# Altium schematic symbol library Schematic Diagrams.SchLib: 401 symbols (part 4 of 11)
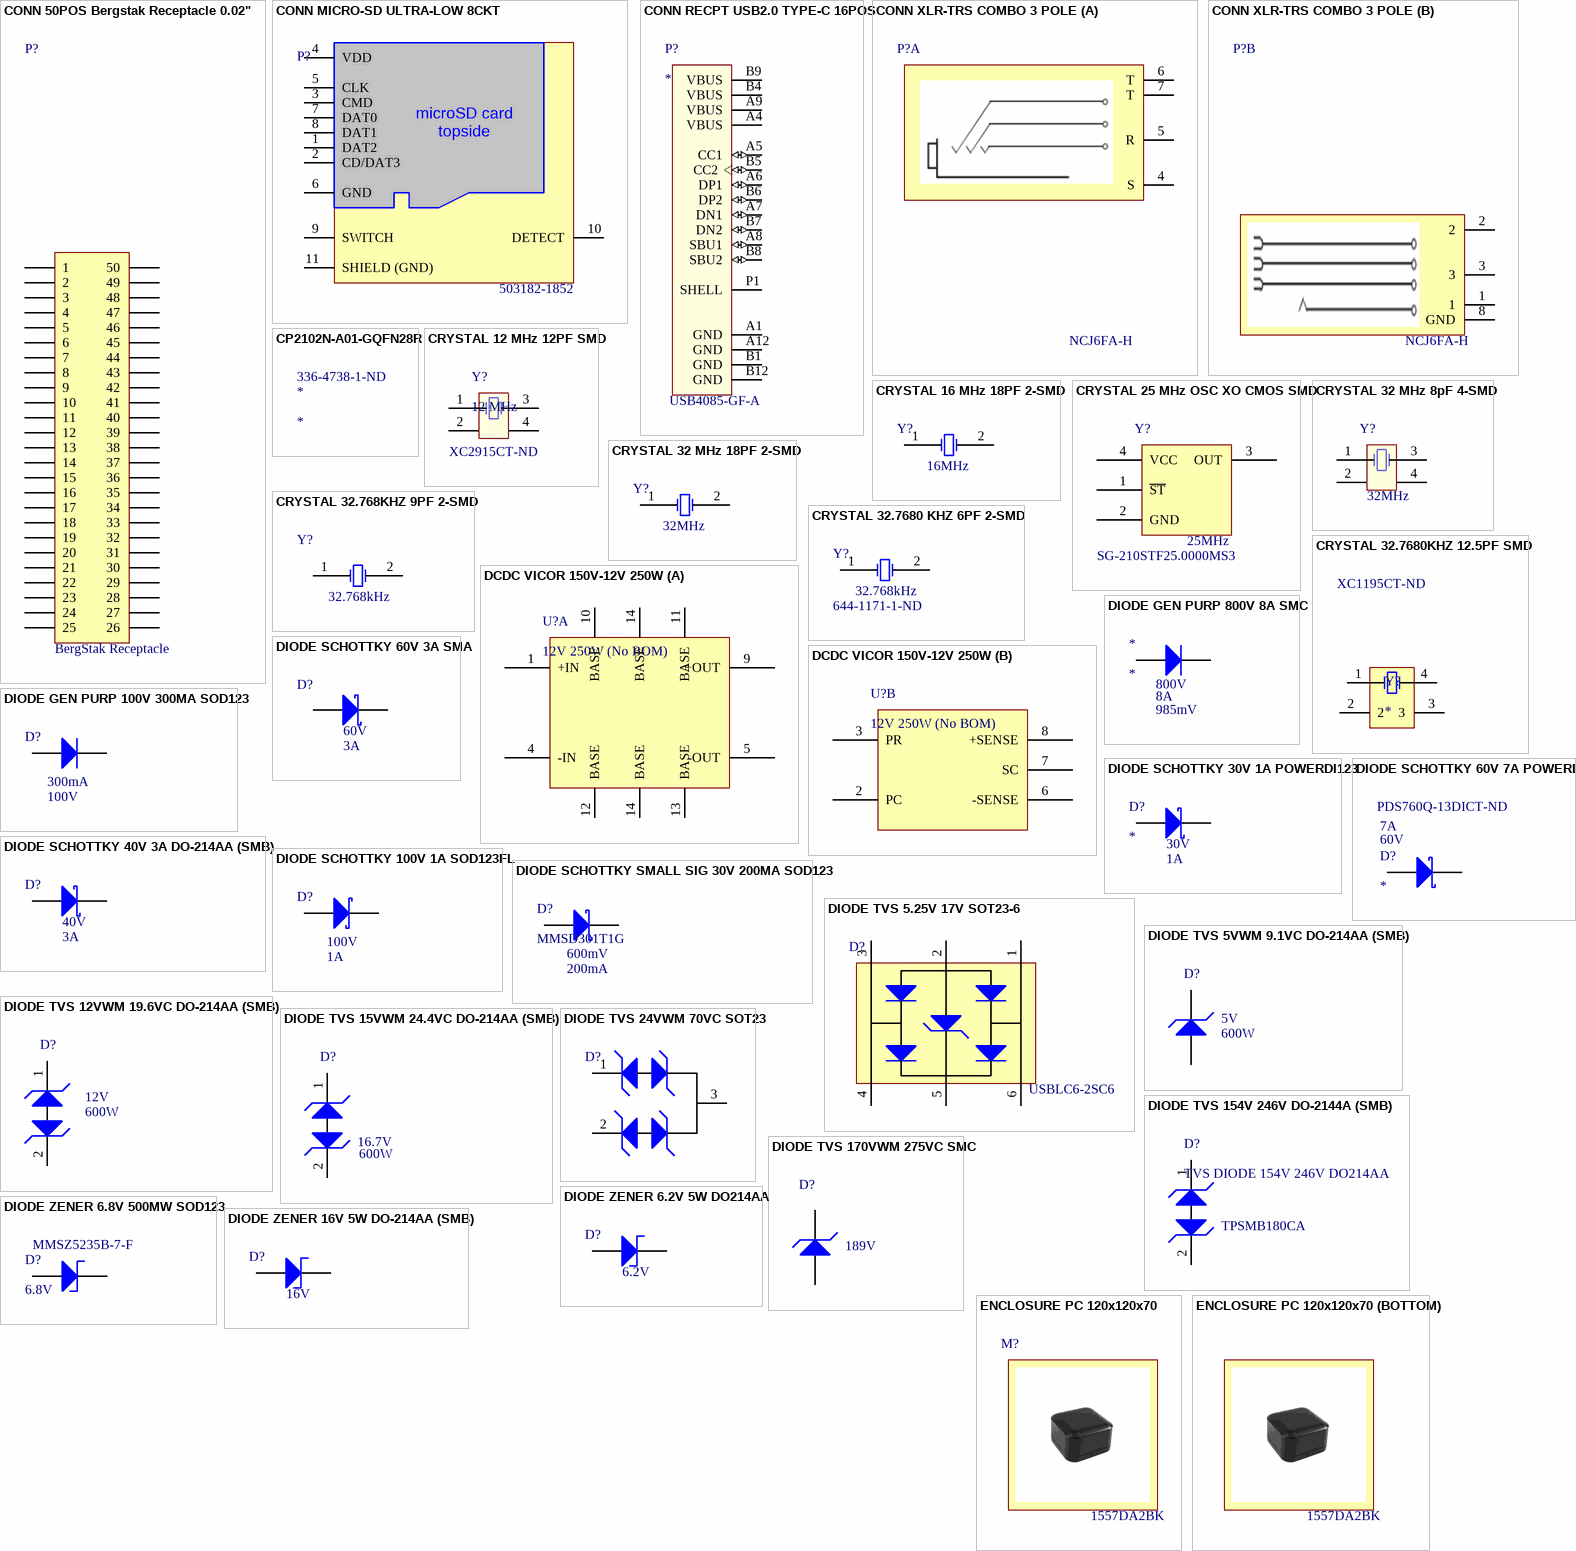
[diagram p17: symbols CONN 50POS Bergstak Receptacle 0.02" to ENCLOSURE PC 120x120x70 (BOTTOM)]

## CONN XLR-TRS COMBO 3 POLE
designator P?  Manufacturer Part Number: NCJ6FA-H  (hidden comment: *)
XLR Connectors A SERIES COMBO;3POLE FEM;PCB HOR; Manufacturer_Name: Neutrik; Body Material: Metal; Gender: Female; Current Rating: 3A; Voltage Rating: 50V; Number of Positions: 3; Number of Ports: 1; Number of Contacts: 6; Connector Type: Socket; Datasheet Link: http://www.neutrik.com/zoolu-website/media/download/13540/Product+Guide+-+Section+XLR; Manufacturer_Part_Number: NCJ6FA-H; Mouser Part Number: 568-NCJ6FA-H; Mouser Price/Stock: https://www.mouser.com/Search/Refine.aspx?Keyword=568-NCJ6FA-H; Supplier 1: Mouser; Supplier Part Number 1: 568-NCJ6FA-H; Manufacturer: Neutrik; Stock 1: 3848; Pricing 1: 1 = 2.06000, 10 = 1.96000, 50 = 1.86000, 100 = 1.80000, 1000 = 1.77000, 10000 = 1.77000 (USD); RoHS: Yes; Case/Package: Metal; Number of Pins: 3; Weight: 0.388014oz; Contact Material: Bronze; Contact Plating: Gold; Number of Terminals: 6; Housing Material: Polyamide; Color: Black; Min Operating Temperature: -30°C; Max Operating Temperature: 80°C; Package Quantity: 10; Termination: Solder; Orientation: Horizontal; Length: 25mm; Depth: 30.2mm; REACH SVHC: No SVHC; Flammability Rating: UL94 HB; ComponentLink1URL: https://datasheet.ciiva.com/30126/neutrik-ncj6fa-h-1-30126129.pdf?src-supplier=Onlinecomponents.com; ComponentLink1Description: https://datasheet.ciiva.com/30126/neutrik-ncj6fa-h-1-30126129.pdf?src-supplier=Onlinecomponents.com; ComponentLink2URL: https://datasheet.ciiva.com/8008/76755-8008003.pdf?src-supplier=Element14; ComponentLink2Description: https://datasheet.ciiva.com/8008/76755-8008003.pdf?src-supplier=Element14; ComponentLink3URL: https://datasheet.ciiva.com/24394/neutrik-ncj6fa-h-1-24394955.pdf?src-supplier=Onlinecomponents.com; ComponentLink3Description: https://datasheet.ciiva.com/24394/neutrik-ncj6fa-h-1-24394955.pdf?src-supplier=Onlinecomponents.com
footprint CONN XLR-TRS COMBO 3 POLE
part A pins: 4 S, 5 R, 6 T, 7 T
part B pins: 1, 2, 3, 8 GND

## CP2102N-A01-GQFN28R
designator *  Supplier Part Number 1: 336-4738-1-ND
IC BRIDGE USB TO UART 28QFN; Manufacturer: Silicon Labs; Manufacturer Part Number: CP2102N-A01-GQFN28R; Supplier 1: Digi-Key; RoHS: No; Stock 1: 2155; Pricing 1: 1=1.40000, 25=1.35160, 100=1.29950 (USD); ComponentLink1URL: https://www.silabs.com/documents/public/data-sheets/cp2102n-datasheet.pdf?src-supplier=Digi-Key; ComponentLink1Description: https://www.silabs.com/documents/public/data-sheets/cp2102n-datasheet.pdf?src-supplier=Digi-Key

## CRYSTAL 12 MHz 12PF SMD
designator Y?, comment 12 MHz  Supplier Part Number 1: XC2915CT-ND
12MHz ±25ppm Crystal 12pF 100 Ohms 4-SMD, No Lead; Manufacturer: ECS International; Manufacturer Part Number: ECS-120-12-33-AEN-TR; Supplier 1: Digi-Key; RoHS: No; Stock 1: 2000; Pricing 1: 1=0.56000, 10=0.46800, 50=0.42080, 100=0.37400, 500=0.35530 (USD)
footprint CRYSTAL ECX-32
pins: 1 OSC1, 2, 3 OSC2, 4 3

## CRYSTAL 16 MHz 18PF 2-SMD
designator Y?  Frequency: 16MHz  (hidden comment: *)
16MHz ±20ppm Crystal 18pF 40 Ohms 2-SMD, No Lead; Manufacturer: Abracon LLC; Manufacturer Part Number: ABM3-16.000MHZ-D2Y-T; Frequency Stability: ±30ppm; Operating Mode: Fundamental; Supplier 1: Digi-Key; RoHS: RoHS Compliant; Category: Crystals, Oscillators, Resonators; Stock 1: 27142; Pricing 1: 1=1.02, 10=0.858, 50=0.7712, 100=0.6855, 500=0.6512 (CAD); Packaging: Cut Tape (CT); Part Status: Active; Type: MHz Crystal; Frequency Tolerance: ±20ppm; Load Capacitance: 18pF; Operating Temperature: -40°C ~ 85°C; Ratings: -; Mounting Type: Surface Mount; Package / Case: 2-SMD, No Lead; Size / Dimension: 0.197" L x 0.126" W (5.00mm x 3.20mm); Height - Seated (Max): 0.051" (1.30mm); ComponentLink1URL: https://abracon.com/Resonators/abm3.pdf; ComponentLink1Description: https://abracon.com/Resonators/abm3.pdf; Supplier Part Number 1: 535-10638-1-ND
footprint ABM3 CRYSTAL
pins: 1, 2

## CRYSTAL 25 MHz OSC XO CMOS SMD
designator Y?  Manufacturer Part Number: SG-210STF25.0000MS3  Frequency: 25MHz  (hidden comment: *)
XTAL OSC XO 25.0000MHZ CMOS SMD; Manufacturer: Epson; Max Supply Current: 2.2mA; Frequency Stability: 25ppm; Load Capacitance: 15pF; Min Supply Voltage: 1.6V; Max Supply Voltage: 3.6V; Max Duty Cycle: 55%; Supplier 1: Digi-Key; RoHS: Yes; Category: Oscillators; Stock 1: 1693; Pricing 1: 1=1.21000, 10=1.15900, 50=1.13200, 100=0.97020 (USD); Mount: Surface Mount; Case/Package: SMD/SMT; Min Operating Temperature: -20°C; Max Operating Temperature: 70°C; Package Quantity: 250; Packaging: Tape and Reel; Termination: SMD/SMT; Current Rating: 2.2mA; Length: 0.098inch; Height: 0.035inch; Width: 0.079inch; Lead Free: Lead Free; ComponentLink1URL: https://datasheet.ciiva.com/29629/029-sg-210stf-e147-29629845.pdf?src-supplier=Digi-Key; ComponentLink1Description: https://datasheet.ciiva.com/29629/029-sg-210stf-e147-29629845.pdf?src-supplier=Digi-Key; ComponentLink2URL: https://datasheet.ciiva.com/29629/029-sg-210stf-e147-29629799.pdf?src-supplier=Digi-Key; ComponentLink2Description: https://datasheet.ciiva.com/29629/029-sg-210stf-e147-29629799.pdf?src-supplier=Digi-Key; ComponentLink3URL: https://datasheet.ciiva.com/29629/029-sg-210stf-e147-29629798.pdf?src-supplier=Digi-Key; ComponentLink3Description: https://datasheet.ciiva.com/29629/029-sg-210stf-e147-29629798.pdf?src-supplier=Digi-Key; Supplier Part Number 1: SER3804CT-ND
footprint CRYSTAL 25 MHz OSC XO CMOS SMD
pins: 1 ~{ST}, 2 GND, 3 OUT, 4 VCC

## CRYSTAL 32 MHz 8pF 4-SMD
designator Y?  Frequency: 32MHz
32MHz ±15ppm Crystal 8pF 50 Ohm -40°C ~ 85°C AEC-Q200 Surface Mount 4-SMD, No Lead; Manufacturer 1: AVX Corp/Kyocera Corp; Manufacturer Part Number 1: CX2520DB32000D0GPSC1; Frequency Stability: ±50ppm; ESR (Equivalent Series Resistance): 50 Ohm; Operating Mode: Fundamental; Supplier 1: Digi-Key; Supplier Part Number 1: 1253-1730-1-ND; Packaging: Cut Tape (CT); Part Status: Active; Type: MHz Crystal; Frequency Tolerance: ±15ppm; Operating Temperature: -40°C ~ 85°C; Ratings: AEC-Q200; Mounting Type: Surface Mount; Package / Case: 4-SMD, No Lead; Size / Dimension: 0.098" L x 0.079" W (2.50mm x 2.00mm); Height - Seated (Max): 0.022" (0.55mm); ComponentLink1URL: http://media.digikey.com/pdf/Data%20Sheets/AVX%20PDFs/CX2520DB_USY1M-H1-16428-00_Spec.pdf; ComponentLink1Description: http://media.digikey.com/pdf/Data%20Sheets/AVX%20PDFs/CX2520DB_USY1M-H1-16428-00_Spec.pdf; Load Capacitance: 8pF
footprint CX2520DB CRYSTAL
pins: 1 OSC1, 2, 3 OSC2, 4 3

## CRYSTAL 32 MHz 18PF 2-SMD
designator Y?  Frequency: 32MHz  (hidden comment: *)
32MHz ±20ppm Crystal 18pF 50 Ohms 2-SMD, No Lead /; Manufacturer: Abracon; Manufacturer Part Number: ABM7-32.000MHZ-D2Y-T; ESR (Equivalent Series Resistance): 50R; Frequency Stability: 30ppm; ComponentLink1URL: https://abracon.com/Resonators/abm3.pdf; ComponentLink1Description: https://abracon.com/Resonators/abm3.pdf; Supplier 1: Digi-Key; Supplier Part Number 1: 535-9850-1-ND; RoHS: Yes; Stock 1: 3351; Pricing 1: 1 = 1.00000, 10 = 0.88600, 50 = 0.82780, 100 = 0.73150, 500 = 0.69300 (USD); Mount: Surface Mount; Case/Package: CSMD; Number of Pins: 2; Min Operating Temperature: -40°C; Max Operating Temperature: 85°C; Load Capacitance: 18pF; Package Quantity: 1000; Tolerance: 20ppm; Packaging: Tape and Reel; Frequency Tolerance: 20ppm; Termination: SMD/SMT; Composition: Ceramic; Series Resistance: 50R; Length: 6mm; Height: 0.055inch; Width: 3.3mm; Depth: 3.5mm; Radiation Hardening: No; REACH SVHC: Unknown; Lead Free: Lead Free; ComponentLink2URL: http://www.farnell.com/datasheets/947971.pdf?src-supplier=Element14; ComponentLink2Description: http://www.farnell.com/datasheets/947971.pdf?src-supplier=Element14; ComponentLink3URL: http://www.abracon.com/Resonators/abm7.pdf?src-supplier=Future+Electronics; ComponentLink3Description: http://www.abracon.com/Resonators/abm7.pdf?src-supplier=Future+Electronics; ComponentLink4URL: http://www.abracon.com/Resonators/abm7.pdf?src-supplier=Digi-Key; ComponentLink4Description: http://www.abracon.com/Resonators/abm7.pdf?src-supplier=Digi-Key; ComponentLink5URL: https://abracon.com/Resonators/abm7.pdf?src-supplier=Digi-Key; ComponentLink5Description: https://abracon.com/Resonators/abm7.pdf?src-supplier=Digi-Key; ComponentLink6URL: http://www.abracon.com/Resonators/abm7.pdf?src-supplier=Avnet; ComponentLink6Description: http://www.abracon.com/Resonators/abm7.pdf?src-supplier=Avnet
footprint CRYSTAL ABM7 (32MHz ±20ppm Crystal 18pF 50 Ohms 2-SMD, No Lead)
pins: 1, 2

## CRYSTAL 32.768KHZ 9PF 2-SMD
designator Y?  Frequency: 32.768kHz
32.768kHz ±20ppm Crystal 6pF 50 kOhm -40°C ~ 85°C Surface Mount 4-SOJ, 5.50mm pitch; Manufacturer 1: Abracon LLC; Manufacturer Part Number 1: ABS07AIG-32.768KHZ-9-1-T; Frequency Tolerance: ±10ppm; Load Capacitance: 9pF; ESR (Equivalent Series Resistance): 70 kOhm; Operating Mode: Fundamental; Supplier 1: Digi-Key; Supplier Part Number 1: 535-13353-1-ND; Packaging: Cut Tape (CT); Part Status: Active; Type: kHz Crystal (Tuning Fork); Frequency Stability: -; Operating Temperature: -40°C ~ 125°C; Ratings: AEC-Q200; Mounting Type: Surface Mount; Package / Case: 2-SMD, No Lead; Size / Dimension: 0.126" L x 0.059" W (3.20mm x 1.50mm); Height - Seated (Max): 0.035" (0.90mm); ComponentLink1URL: http://www.abracon.com/AIGcrystals/ABS07AIG.pdf; ComponentLink1Description: http://www.abracon.com/AIGcrystals/ABS07AIG.pdf
footprint ABS07AIG CRYSTAL
pins: 1, 2

## CRYSTAL 32.7680 KHZ 6PF 2-SMD
designator Y?  Supplier Part Number 1: 644-1171-1-ND  Frequency: 32.768kHz  (hidden comment: *)
Crystal 32.7680KHZ 6PF SMD; Manufacturer: NDK; Manufacturer Part Number: NX3215SA-32.768K-STD-MUA-14; Frequency Tolerance: 20ppm; ESR (Equivalent Series Resistance): 70kR; Supplier 1: Digi-Key; RoHS: Yes; Category: Crystals; Stock 1: 61958; Pricing 1: 1=0.68000, 10=0.60200, 50=0.56280, 100=0.49740, 500=0.47124, 1000=0.39270 (USD); Mount: Surface Mount; Case/Package: SMD/SMT; Number of Pins: 2; Min Operating Temperature: -40°C; Max Operating Temperature: 85°C; Packaging: Tape and Reel; Package Quantity: 3000; Length: 0.126inch; Height: 0.035inch; Width: 0.059inch; ComponentLink1URL: https://datasheet.ciiva.com/6733/c-nx3215sa-std-mua-9-e-6733110.pdf?src-supplier=Digi-Key; ComponentLink1Description: https://datasheet.ciiva.com/6733/c-nx3215sa-std-mua-9-e-6733110.pdf?src-supplier=Digi-Key; ComponentLink2URL: https://datasheet.ciiva.com/6733/c-nx3215sa-std-mua-9-e-6733111.pdf?src-supplier=Digi-Key; ComponentLink2Description: https://datasheet.ciiva.com/6733/c-nx3215sa-std-mua-9-e-6733111.pdf?src-supplier=Digi-Key; ComponentLink3URL: https://datasheet.ciiva.com/6733/c-nx3215sa-std-mua-9-e-6733112.pdf?src-supplier=Digi-Key; ComponentLink3Description: https://datasheet.ciiva.com/6733/c-nx3215sa-std-mua-9-e-6733112.pdf?src-supplier=Digi-Key; Load Capacitance: 6pF
footprint CRYSTAL 32.7680 KHZ 6PF 2-SMD
pins: 1, 2

## CRYSTAL 32.7680KHZ 12.5PF SMD
designator Y?  Supplier Part Number 1: XC1195CT-ND
32.768kHz ±20ppm Crystal 12.5pF 50 kOhms 4-SOJ, 5.50mm pitch; Manufacturer: ECS International; Manufacturer Part Number: ECS-.327-12.5-17X-TR; ESR (Equivalent Series Resistance): 50kR; Supplier 1: Digi-Key; Stock 1: 67622; Pricing 1: 1=0.56, 10=0.468, 50=0.4208, 100=0.374, 500=0.3553, 1000=0.2992 (USD); Mount: Surface Mount; Min Operating Temperature: -40°C; Max Operating Temperature: 85°C; Package Quantity: 1; Frequency: 32.768kHz; Frequency Tolerance: 20ppm; Load Capacitance: 12.5pF; Packaging: Tape and Reel; Tolerance: 20ppm; Termination: SMD/SMT; Length: 0.315inch; Height: 0.098inch; Width: 0.15inch; Lead Free: Lead Free; ComponentLink1URL: https://datasheet.ciiva.com/852/ecx-306x-852775.pdf; ComponentLink1Description: https://datasheet.ciiva.com/852/ecx-306x-852775.pdf; ComponentLink2URL: https://datasheet.ciiva.com/852/ecx-306x-852776.pdf; ComponentLink2Description: https://datasheet.ciiva.com/852/ecx-306x-852776.pdf; ComponentLink3URL: https://datasheet.ciiva.com/852/ecx-306x-852777.pdf; ComponentLink3Description: https://datasheet.ciiva.com/852/ecx-306x-852777.pdf
footprint 4-SOJ
pins: 1, 2, 3, 4

## DCDC VICOR 150V-12V 250W
designator U?, comment 12V 250W (No BOM)  (no BOM)
Isolated Module DC DC Converter 1 Output 12V 20.83A 100V - 200V Input; Manufacturer: Vicor Corporation; Manufacturer Part Number: V150B12C250BL; Number of Outputs: 1; Voltage - Isolation: 3kV (3000V); Efficiency: 88.1%; Supplier 1: Digi-Key; RoHS: RoHS non-compliant; Category: Power Supplies - Board Mount; Stock 1: 0; Pricing 1: 1=252.65 (CAD); Packaging: Bulk; Part Status: Active; Type: Isolated Module; Voltage - Input (Min): 100V; Voltage - Input (Max): 200V; Voltage - Output 1: 12V; Voltage - Output 2: -; Voltage - Output 3: -; Current - Output (Max): 20.83A; Applications: ITE (Commercial); Features: OVP, UVLO; Operating Temperature: -20°C ~ 100°C; Mounting Type: Through Hole; Package / Case: 9-DIP Module; Size / Dimension: 2.28" L x 2.20" W x 0.50" H (57.9mm x 55.9mm x 12.7mm); ComponentLink1URL: http://cdn.vicorpower.com/documents/datasheets/ds_150vin-mini-family.pdf; ComponentLink1Description: http://cdn.vicorpower.com/documents/datasheets/ds_150vin-mini-family.pdf; Supplier Part Number 1: 1102-1234-ND
footprint DCDC VICOR 150V-12V 250W
part A pins: 1 +IN, 4 -IN, 5 -OUT, 9 +OUT, 10 BASE, 11 BASE, 12 BASE, 13 BASE, 14 BASE, 14 BASE
part B pins: 2 PC, 3 PR, 6 -SENSE, 7 SC, 8 +SENSE

## DIODE GEN PURP 100V 300MA SOD123
designator D?  Max Repetitive Reverse Voltage (Vrrm): 100V  Forward Current: 300mA  (hidden comment: *)
Diode Standard 100V 300mA (DC) Surface Mount SOD-123; Manufacturer: Diodes Zetex; Manufacturer Part Number: 1N4148WQ-7-F; Max Surge Current: 2A; Forward Voltage: 1.25V; Element Configuration: Single; Recovery Time: 4ns; Peak Reverse Current: 50uA; Max Power Dissipation: 400mW; Supplier 1: Digi-Key; Stock 1: 229; Pricing 1: 1=0.22, 10=0.196, 100=0.107, 500=0.0658, 1000=0.0449 (USD); Mount: Surface Mount; Case/Package: SOD-123-2; Number of Pins: 2; Weight: 0.000353oz; Contact Plating: Tin,Matte; Min Operating Temperature: -65°C; Max Operating Temperature: 150°C; Packaging: Tape and Reel; Peak Non-Repetitive Surge Current: 2A; Package Quantity: 3000; Reverse Recovery Time: 4ns; Lead Free: Lead Free; ComponentLink1URL: http://components.arrow.com/part/dataview/0323_07206809; ComponentLink1Description: http://components.arrow.com/part/dataview/0323_07206809; ComponentLink2URL: http://www.diodes.com/datasheets/ds30086.pdf; ComponentLink2Description: http://www.diodes.com/datasheets/ds30086.pdf; ComponentLink3URL: http://www.mouser.com/ds/2/115/ds30086-318161.pdf; ComponentLink3Description: http://www.mouser.com/ds/2/115/ds30086-318161.pdf; Supplier Part Number 1: 1N4148WQ-7-FDICT-ND
footprint DIODE GEN PURP 100V 300MA SOD123 (Diode Standard 100V 300mA (DC) Surface Mount SOD-123)
pins: 1 A, 2 K

## DIODE GEN PURP 800V 8A SMC
designator *  Forward Voltage: 985mV  Max Reverse Voltage (DC): 800V  Forward Current: 8A
Manufacturer: Diodes; Manufacturer Part Number: S8KC-13; Peak Reverse Current: 10uA; Max Surge Current: 200A; Element Configuration: Single; Supplier 1: Digi-Key; Stock 1: 38298; Pricing 1: 1=0.68, 10=0.598, 100=0.4586, 500=0.36256, 1000=0.29005 (USD); Mount: Surface Mount; Case/Package: SMC; Number of Pins: 2; Weight: 0.007408oz; Contact Plating: Tin,Matte; Min Operating Temperature: -65°C; Max Operating Temperature: 150°C; Packaging: Tape and Reel; Package Quantity: 3000; Reverse Voltage (DC): 800V; Average Rectified Current: 8A; Max Repetitive Reverse Voltage (Vrrm): 800V; Peak Non-Repetitive Surge Current: 200A; Max Forward Surge Current (Ifsm): 200A; Length: 7.11mm; Height: 2.42mm; Width: 6.22mm; Radiation Hardening: No; Lead Free: Lead Free; ComponentLink1URL: https://datasheet.ciiva.com/15144/getdatasheetpartid-61102-15144323.pdf; ComponentLink1Description: https://datasheet.ciiva.com/15144/getdatasheetpartid-61102-15144323.pdf; ComponentLink2URL: https://datasheet.ciiva.com/16388/ds31117-16388346.pdf; ComponentLink2Description: https://datasheet.ciiva.com/16388/ds31117-16388346.pdf; ComponentLink3URL: https://datasheet.ciiva.com/914/ds31117-914779.pdf; ComponentLink3Description: https://datasheet.ciiva.com/914/ds31117-914779.pdf; ComponentLink4URL: https://datasheet.ciiva.com/4453/ds31117-63855-4453947.pdf; ComponentLink4Description: https://datasheet.ciiva.com/4453/ds31117-63855-4453947.pdf; Supplier Part Number 1: S8KCDICT-ND
footprint DIODE, SMC
pins: 1 K, 2 A

## DIODE SCHOTTKY 30V 1A POWERDI123
designator D?  Current - Average Rectified (Io): 1A  Voltage - DC Reverse (Vr) (Max): 30V
Diode Schottky 30V 1A Surface Mount PowerDI™ 123; Manufacturer: Diodes Incorporated; Manufacturer Part Number: DFLS130L-7; Speed: Fast Recovery =< 500ns, > 200mA (Io); Current - Reverse Leakage @ Vr: 1mA @ 30V; Capacitance @ Vr, F: 76pF @ 10V, 1MHz; Voltage - Forward (Vf) (Max) @ If: 310mV @ 1A; Supplier 1: Digi-Key; RoHS: RoHS Compliant; Category: Discrete Semiconductor Products; Stock 1: 68200; Packaging: Cut Tape (CT); Part Status: Active; Diode Type: Schottky; Mounting Type: Surface Mount; Package / Case: POWERDI®123; Supplier Device Package: PowerDI™ 123; Operating Temperature - Junction: -40°C ~ 125°C; ComponentLink1URL: https://www.diodes.com/assets/Datasheets/ds30492.pdf; ComponentLink1Description: https://www.diodes.com/assets/Datasheets/ds30492.pdf; Supplier Part Number 1: DFLS130LDICT-ND; Pricing 1: 1=0.7, 10=0.599, 100=0.447, 500=0.35126, 1000=0.27142 (CAD)
footprint DIODE SCHOTTKY 30V 1A POWERDI123 (Diodes Incorporated DFLS130L-7)
pins: 1 A, 2 K

## DIODE SCHOTTKY 40V 3A DO-214AA (SMB)
designator D?  Voltage - DC Reverse (Vr) (Max): 40V  Current - Average Rectified (Io): 3A
Diode Schottky 40V 3A Surface Mount DO-214AA (SMB); Manufacturer 1: Comchip Technology; Manufacturer Part Number 1: CDBB340-HF; Voltage - Forward (Vf) (Max) @ If: 500mV @ 3A; Speed: Fast Recovery =< 500ns, > 200mA (Io); Current - Reverse Leakage @ Vr: 500µA @ 40V; Capacitance @ Vr, F: 250pF @ 4V, 1MHz; Supplier 1: Digi-Key; Supplier Part Number 1: 641-1722-1-ND; Packaging: Cut Tape (CT); Part Status: Active; Diode Type: Schottky; Mounting Type: Surface Mount; Package / Case: DO-214AA, SMB; Supplier Device Package: DO-214AA (SMB); Operating Temperature - Junction: -40°C ~ 70°C; ComponentLink1URL: http://www.comchiptech.com/cms/UserFiles/CDBB340-HF%20Thru849517.%20CDBB3100-HF%20RevE.pdf; ComponentLink1Description: http://www.comchiptech.com/cms/UserFiles/CDBB340-HF%20Thru849517.%20CDBB3100-HF%20RevE.pdf
footprint DO-214AA Diode (Zener Diode 16V 5W SMBJ5353B-TP)
pins: 1 A, 2 K

## DIODE SCHOTTKY 60V 3A SMA
designator D?  Voltage - DC Reverse (Vr) (Max): 60V  Current - Average Rectified (Io): 3A
Diode Schottky 60V 3A Surface Mount SMA; Manufacturer 1: Diodes Incorporated; Manufacturer Part Number 1: B360A-13-F; Voltage - Forward (Vf) (Max) @ If: 700mV @ 3A; Speed: Fast Recovery =< 500ns, > 200mA (Io); Current - Reverse Leakage @ Vr: 500µA @ 60V; Capacitance @ Vr, F: 200pF @ 4V, 1MHz; Supplier 1: Digi-Key; Supplier Part Number 1: B360A-FDICT-ND; Packaging: Cut Tape (CT); Part Status: Active; Diode Type: Schottky; Mounting Type: Surface Mount; Package / Case: DO-214AC, SMA; Supplier Device Package: SMA; Operating Temperature - Junction: -55°C ~ 150°C; ComponentLink1URL: https://www.diodes.com/assets/Datasheets/ds30891.pdf; ComponentLink1Description: https://www.diodes.com/assets/Datasheets/ds30891.pdf
footprint Diode, SMA
pins: 1, 2

## DIODE SCHOTTKY 60V 7A POWERDI5
designator D?  Current - Average Rectified (Io): 7A  Supplier Part Number 2: PDS760Q-13DICT-ND  Voltage: 60V
Diode Schottky 60V 7A Surface Mount PowerDI™ 5; Manufacturer: Diodes Incorporated; Manufacturer Part Number: PDS760Q-13; Speed: Fast Recovery =< 500ns, > 200mA (Io); Supplier 1: Digi-Key; RoHS: RoHS Compliant; Category: Discrete Semiconductor Products; Stock 1: 35000; Pricing 1: 5000=0.48794, 10000=0.4696 (CAD); Packaging: Tape & Reel (TR); Part Status: Active; Diode Type: Schottky; Capacitance @ Vr, F: -; Mounting Type: Surface Mount; Package / Case: PowerDI™ 5; Supplier Device Package: PowerDI™ 5; Operating Temperature - Junction: -65°C ~ 150°C; ComponentLink1URL: https://www.diodes.com/assets/Datasheets/PDS760Q.pdf; ComponentLink1Description: https://www.diodes.com/assets/Datasheets/PDS760Q.pdf; Supplier 2: Digi-Key; Stock 2: 36638; Pricing 2: 1=1.24, 10=1.115, 100=0.8692, 500=0.71798, 1000=0.56682 (CAD)
footprint DIODE SCHOTTKY 60V 7A POWERDI5 (Diode Schottky 60V 7A Surface Mount PowerDI™ 5)
pins: 1, 2

## DIODE SCHOTTKY 100V 1A SOD123FL
designator D?  Average Rectified Current: 1A  Max Reverse Voltage (DC): 100V  (hidden comment: *)
DIODE SCHOTTKY 100V 1A SOD123FL; Manufacturer: MCC; Manufacturer Part Number: SL110PL-TP; Supplier 1: Digi-Key; RoHS: Yes; Category: Rectifier Diodes; Stock 1: 10587; Pricing 1: 1=0.33000, 10=0.24700, 100=0.11740, 500=0.09580, 1000=0.07107 (USD); Mount: Surface Mount; Packaging: Tape and Reel; ComponentLink1URL: http://www.mccsemi.com/up_pdf/SL14PL-SL110PL(SOD-123FL)-A.pdf?src-supplier=Digi-Key; ComponentLink1Description: http://www.mccsemi.com/up_pdf/SL14PL-SL110PL(SOD-123FL)-A.pdf?src-supplier=Digi-Key; Supplier Part Number 1: SL110PL-TPMSCT-ND
footprint DIODE SOD123
pins: 1, 2

## DIODE SCHOTTKY SMALL SIG 30V 200MA SOD123
designator D?, comment MMSD301T1G  Forward Voltage: 600mV  Forward Current: 200mA
Diode Schottky 30V 200mA (DC) Surface Mount SOD-123; Manufacturer 1: ON Semiconductor; Description 1: DIODE SCHOTTKY 30V 200MA SOD123; Polarity: Standard; Current Rating: 100mA; Peak Reverse Current: 200nA; Max Forward Surge Current (Ifsm): 1A; Power Dissipation: 225mW; Element Configuration: Single; Supplier 1: Digi-Key; Supplier Part Number 1: MMSD301T1GOSCT-ND; Manufacturer Part Number 1: MMSD301T1G; Stock 1: 23461; Pricing 1: 1=0.37, 10=0.301, 100=0.1597, 500=0.1051, 1000=0.0714 (USD); Case/Package: SOD-123-2; Number of Pins: 2; Contact Plating: Tin,Matte; Min Operating Temperature: -55°C; Max Operating Temperature: 125°C; Packaging: Tape and Reel; Voltage Rating (DC): 30V; Output Current: 200mA; Package Quantity: 3000; Max Reverse Leakage Current: 200nA; Reverse Voltage (DC): 30V; Average Rectified Current: 200mA; Max Repetitive Reverse Voltage (Vrrm): 30V; Termination: SMD/SMT; Max Reverse Voltage (DC): 30V; Length: 2.84mm; Height: 1.25mm; Width: 1.8mm; Radiation Hardening: No; REACH SVHC: No SVHC; Lead Free: Lead Free; ComponentLink1URL: https://datasheet.ciiva.com/927/mmsd301t1-d-927472.pdf; ComponentLink1Description: https://datasheet.ciiva.com/927/mmsd301t1-d-927472.pdf; ComponentLink2URL: https://datasheet.ciiva.com/5763/85966-5763040.pdf; ComponentLink2Description: https://datasheet.ciiva.com/5763/85966-5763040.pdf; ComponentLink3URL: https://datasheet.ciiva.com/915/mmsd301t1-d-915476.pdf; ComponentLink3Description: https://datasheet.ciiva.com/915/mmsd301t1-d-915476.pdf; ComponentLink4URL: https://datasheet.ciiva.com/915/mmsd301t1-d-915477.pdf; ComponentLink4Description: https://datasheet.ciiva.com/915/mmsd301t1-d-915477.pdf; ComponentLink5URL: https://datasheet.ciiva.com/915/mmsd301t1-d-915478.pdf; ComponentLink5Description: https://datasheet.ciiva.com/915/mmsd301t1-d-915478.pdf; ComponentLink6URL: https://datasheet.ciiva.com/25947/mmsd301t1-d-25947942.pdf; ComponentLink6Description: https://datasheet.ciiva.com/25947/mmsd301t1-d-25947942.pdf; ComponentLink7URL: https://datasheet.ciiva.com/8299/mmsd301t1-d-8299881.pdf; ComponentLink7Description: https://datasheet.ciiva.com/8299/mmsd301t1-d-8299881.pdf; ComponentLink8URL: https://datasheet.ciiva.com/16215/mmsd301t1-d-16215580.pdf; ComponentLink8Description: https://datasheet.ciiva.com/16215/mmsd301t1-d-16215580.pdf
footprint DIODE SOD123
pins: 1, 2

## DIODE TVS 5.25V 17V SOT23-6
designator D?  Manufacturer Part Number 1: USBLC6-2SC6  (hidden comment: *)
17V Clamp 5A (8/20µs) Ipp Tvs Diode Surface Mount SOT-23-6; Manufacturer 1: STMicroelectronics; Data Rate: 480Mbps; Direction: Unidirectional; Capacitance: 3.5pF; Operating Supply Voltage: 1.1V; Number of Elements: 1; Number of Channels: 2; Reverse Breakdown Voltage: 6V; Working Voltage: 5V; Reverse Standoff Voltage: 5.25V; Power Line Protection: Yes; Test Current: 1mA; Max Reverse Leakage Current: 150nA; Element Configuration: Dual; Supplier 1: Digi-Key; Stock 1: 7579; Pricing 1: 1=0.47000, 10=0.39900, 100=0.29820, 500=0.23430, 1000=0.18105 (USD); RoHS: Yes; Mount: Surface Mount; Case/Package: SOT-23; Number of Pins: 6; Contact Plating: Tin; Min Operating Temperature: -40°C; Max Operating Temperature: 125°C; Packaging: Tape and Reel; Package Quantity: 3000; Polarity: Unidirectional; Breakdown Voltage: 6V; Clamping Voltage: 17V; Termination: SMD/SMT; Number of Bidirectional Channels: 2; Min Breakdown Voltage: 6V; ESD Protection: Yes; Max Breakdown Voltage: 6V; Leakage Current: 150nA; Peak Pulse Current: 5A; Length: 3.05mm; Height: 1.3mm; Width: 1.75mm; Depth: 1.75mm; Radiation Hardening: No; REACH SVHC: No SVHC; Lead Free: Lead Free; ComponentLink1URL: https://datasheet.ciiva.com/1268/1690354-1268384.pdf?src-supplier=Element14; ComponentLink1Description: https://datasheet.ciiva.com/1268/1690354-1268384.pdf?src-supplier=Element14; ComponentLink2URL: https://datasheet.ciiva.com/4508/cd00050750-113117-4508433.pdf?src-supplier=Mouser; ComponentLink2Description: https://datasheet.ciiva.com/4508/cd00050750-113117-4508433.pdf?src-supplier=Mouser; ComponentLink3URL: https://datasheet.ciiva.com/15143/getdatasheetpartid-148465-15143789.pdf?src-supplier=Verical; ComponentLink3Description: https://datasheet.ciiva.com/15143/getdatasheetpartid-148465-15143789.pdf?src-supplier=Verical; ComponentLink4URL: https://datasheet.ciiva.com/26787/usblc6-2sc6-26787908.pdf?src-supplier=IIIC; ComponentLink4Description: https://datasheet.ciiva.com/26787/usblc6-2sc6-26787908.pdf?src-supplier=IIIC; ComponentLink5URL: https://datasheet.ciiva.com/16200/cd00050750-16200026.pdf?src-supplier=Future+Electronics; ComponentLink5Description: https://datasheet.ciiva.com/16200/cd00050750-16200026.pdf?src-supplier=Future+Electronics; ComponentLink6URL: https://datasheet.ciiva.com/41444/001184109-da-01-en-ic-esd-protecti-usblc6-2sc6-sot-23-6-stm-41444156.pdf?src-supplier=Conrad; ComponentLink6Description: https://datasheet.ciiva.com/41444/001184109-da-01-en-ic-esd-protecti-usblc6-2sc6-sot-23-6-stm-41444156.pdf?src-supplier=Conrad; Supplier Part Number 1: 497-5235-1-ND
footprint SOT23-6
pins: 1 Cathode3, 2 Cathode2, 3 Cathode1, 4 Cathode2, 5 Cathode4, 6 Cathode3

## DIODE TVS 5VWM 9.1VC DO-214AA (SMB)
designator D?  Voltage - Reverse Standoff (Typ): 5V  Power - Peak Pulse: 600W  (hidden comment: *)
TVS DIODE 5V 9.1V DO214AA; Manufacturer: Vishay Semiconductor Diodes Division; Manufacturer Part Number: SMBJ5.0D-M3/H; Type: Zener; Voltage - Breakdown (Min): 6.5V; Current - Peak Pulse (10/1000µs): 65.9A; Power Line Protection: No; Supplier 1: Digi-Key; RoHS: RoHS Compliant; Category: Circuit Protection; Stock 1: 6900; Pricing 1: 1=0.51, 10=0.416, 25=0.3808, 100=0.2833, 250=0.25668 (CAD); Packaging: Cut Tape (CT); Part Status: Active; Voltage - Clamping (Max) @ Ipp: 9.1V; Applications: General Purpose; Capacitance @ Frequency: -; Operating Temperature: -55°C ~ 150°C (TJ); Mounting Type: Surface Mount; Package / Case: DO-214AA, SMB; Supplier Device Package: DO-214AA (SMBJ); ComponentLink1URL: http://www.vishay.com/docs/87606/87606.pdf; ComponentLink1Description: http://www.vishay.com/docs/87606/87606.pdf; Supplier Part Number 1: SMBJ5.0D-M3/HGICT-ND
footprint DO-214AA Diode (Zener Diode 16V 5W SMBJ5353B-TP)
pins: 1, 2

## DIODE TVS 12VWM 19.6VC DO-214AA (SMB)
designator D?  Voltage - Reverse Standoff (Typ): 12V  Power - Peak Pulse: 600W  (hidden comment: *)
TVS DIODE 12V 19.6V DO214AA; Manufacturer: Vishay Semiconductor Diodes Division; Manufacturer Part Number: SMBJ12CD-M3/H; Type: Zener; Voltage - Breakdown (Min): 13.5V; Current - Peak Pulse (10/1000µs): 30.6A; Power Line Protection: No; Supplier 1: Digi-Key; RoHS: RoHS Compliant; Category: Circuit Protection; Stock 1: 4469; Pricing 1: 1=0.69, 10=0.565, 25=0.516, 100=0.3841, 250=0.34808 (CAD); Packaging: Cut Tape (CT); Part Status: Active; Voltage - Clamping (Max) @ Ipp: 19.6V; Applications: General Purpose; Capacitance @ Frequency: -; Operating Temperature: -55°C ~ 150°C (TJ); Mounting Type: Surface Mount; Package / Case: DO-214AA, SMB; Supplier Device Package: DO-214AA (SMBJ); ComponentLink1URL: http://www.vishay.com/docs/87606/87606.pdf; ComponentLink1Description: http://www.vishay.com/docs/87606/87606.pdf; Supplier Part Number 1: SMBJ12CD-M3/HGICT-ND
footprint DO-214AA Diode - BI (Zener Diode 16V 5W SMBJ5353B-TP)
pins: 1 Cathode1, 2 Cathode2

## DIODE TVS 15VWM 24.4VC DO-214AA (SMB)
designator D?  Voltage - Breakdown (Min): 16.7V  Power - Peak Pulse: 600W  (hidden comment: *)
TVS DIODE 15VWM 24.4VC SMB; Manufacturer 1: Fairchild/ON Semiconductor; Manufacturer Part Number 1: SMBJ15CA; Type: Zener; Voltage - Reverse Standoff (Typ): 15V; Voltage - Clamping (Max) @ Ipp: 24.4V; Current - Peak Pulse (10/1000µs): 24.6A; Power Line Protection: No; Supplier 1: Digi-Key; Supplier Part Number 1: SMBJ15CAFSCT-ND; RoHS: RoHS Compliant; Description 1: TVS DIODE 15VWM 24.4VC SMB; Category: Circuit Protection; Stock 1: 24965; Pricing 1: 1=0.54, 10=0.444, 100=0.3027, 500=0.22704, 1000=0.17028 (CAD); Packaging: Cut Tape (CT); Part Status: Active; Applications: General Purpose; Capacitance @ Frequency: -; Operating Temperature: -55°C ~ 150°C (TJ); Mounting Type: Surface Mount; Package / Case: DO-214AA, SMB; Supplier Device Package: DO-214AA (SMB); ComponentLink1URL: https://www.fairchildsemi.com/datasheets/SM/SMBJ10CA.pdf; ComponentLink1Description: https://www.fairchildsemi.com/datasheets/SM/SMBJ10CA.pdf
footprint DO-214AA Diode - BI (Zener Diode 16V 5W SMBJ5353B-TP)
pins: 1 Cathode1, 2 Cathode2

## DIODE TVS 24VWM 70VC SOT23
designator D?
TVS DIODE 24VWM 70VC SOT23; Manufacturer 1: Nexperia USA Inc.; Manufacturer Part Number 1: PESD1CAN,215; Type: Zener; Voltage - Breakdown (Min): 25.4V; Voltage - Clamping (Max) @ Ipp: 70V; Current - Peak Pulse (10/1000µs): 3A (8/20µs); Power - Peak Pulse: 200W; Power Line Protection: No; Capacitance @ Frequency: 11pF @ 1MHz; Supplier 1: Digi-Key; Supplier Part Number 1: 1727-3817-1-ND; Packaging: Cut Tape (CT); Part Status: Active; Operating Temperature: -65°C ~ 150°C (TA); Mounting Type: Surface Mount; Package / Case: TO-236-3, SC-59, SOT-23-3; Supplier Device Package: SOT-23 (TO-236AB); ComponentLink1URL: http://assets.nexperia.com/documents/data-sheet/PESD1CAN.pdf; ComponentLink1Description: http://assets.nexperia.com/documents/data-sheet/PESD1CAN.pdf
footprint MOSFET P-CH 30V 3.8A SOT-23 (SOT23, 3-Leads, Body 2.85x2.40mm, Pitch 0.90mm, IPC Medium Density)
pins: 1 Cathode1, 2 Cathode2, 3 Common_Cathode (power)

## DIODE TVS 154V 246V DO-2144A (SMB)
designator D?, comment TVS DIODE 154V 246V DO214AA  Manufacturer Part Number: TPSMB180CA
Manufacturer: Littelfuse; Supplier 1: Digi-Key; Stock 1: 2900; Pricing 1: 1=0.84, 10=0.734, 25=0.6504, 100=0.5664, 250=0.493, 500=0.41958, 1000=0.33566 (USD); Supplier Part Number 1: F10356CT-ND
footprint DIODE TVS TPSMB 600W DO-214AA SMB (Littlefuse TPSMB)
pins: 1 Cathode1, 2 Cathode2

## DIODE TVS 170VWM 275VC SMC
designator D?  Voltage - DC Reverse (Vr) (Max): 189V
TVS DIODE 170VWM 275VC SMC; Manufacturer 1: Diodes Incorporated; Manufacturer Part Number 1: B360A-13-F; Diode Type: Schottky; Voltage - Forward (Vf) (Max) @ If: 700mV @ 3A; Speed: Fast Recovery =< 500ns, > 200mA (Io); Current - Reverse Leakage @ Vr: 500µA @ 60V; Capacitance @ Vr, F: 200pF @ 4V, 1MHz; Type: Zener; Voltage - Reverse Standoff (Typ): 170V; Voltage - Clamping (Max) @ Ipp: 275V; Current - Peak Pulse (10/1000µs): 5.5A; Power - Peak Pulse: 1500W (1.5kW); Power Line Protection: No; Supplier 1: Digi-Key; Supplier Part Number 1: B360A-FDICT-ND; Packaging: Cut Tape (CT); Part Status: Active; Mounting Type: Surface Mount; Package / Case: DO-214AC, SMA; Supplier Device Package: SMA; Operating Temperature - Junction: -55°C ~ 150°C; ComponentLink1URL: https://www.diodes.com/assets/Datasheets/ds30891.pdf; ComponentLink1Description: https://www.diodes.com/assets/Datasheets/ds30891.pdf; Supplier 2: Digi-Key; Supplier Part Number 2: SMCJ170A-FDICT-ND; Manufacturer 2: Diodes Incorporated; Manufacturer Part Number 2: SMCJ170A-13-F; RoHS: RoHS Compliant; Description 2: TVS DIODE 170VWM 275VC SMC; Category: Circuit Protection; Stock 2: 8020; Pricing 2: 1=0.97, 10=0.827, 100=0.6174, 500=0.48508, 1000=0.37484 (CAD); Voltage - Breakdown (Min): 189V; Applications: General Purpose; Capacitance @ Frequency: -; Operating Temperature: -55°C ~ 150°C (TJ); ComponentLink2URL: https://www.diodes.com/assets/Datasheets/ds19003.pdf; ComponentLink2Description: https://www.diodes.com/assets/Datasheets/ds19003.pdf
footprint DIODE, SMC
pins: 1, 2

## DIODE ZENER 6.2V 5W DO214AA
designator D?  Voltage - Zener (Nom): 6.2V
Zener Diode 6.2V 5W ±5% Surface Mount DO-214AA (SMB); Manufacturer 1: Micro Commercial Co; Manufacturer Part Number 1: SMBJ5341B-TP; Current - Reverse Leakage @ Vr: 1µA @ 3V; Voltage - Forward (Vf) (Max) @ If: 1.2V @ 1A; Supplier 1: Digi-Key; Supplier Part Number 1: SMBJ5341B-TPMSCT-ND; Packaging: Cut Tape (CT); Part Status: Active; Operating Temperature: -55°C ~ 150°C; Mounting Type: Surface Mount; Package / Case: DO-214AA, SMB; Supplier Device Package: DO-214AA (SMB); ComponentLink1URL: http://www.mccsemi.com/up_pdf/SMBJ5338B-SMBJ5388B(SMB).pdf; ComponentLink1Description: http://www.mccsemi.com/up_pdf/SMBJ5338B-SMBJ5388B(SMB).pdf; Tolerance: ±5%
footprint DO-214AA Diode (Zener Diode 16V 5W SMBJ5353B-TP)
pins: 1 A, 2 K

## DIODE ZENER 6.8V 500MW SOD123
designator D?, comment 6.8V  Manufacturer Part Number: MMSZ5235B-7-F
Zener Diode 6.8V 500mW ±5% Surface Mount SOD-123; Manufacturer: Diodes Incorporated; Supplier 1: Digi-Key; RoHS: RoHS Compliant; Category: Discrete Semiconductor Products; Stock 1: 24231; Pricing 1: 1=0.35, 10=0.286, 100=0.1513, 500=0.09956, 1000=0.06769 (CAD); Packaging: Cut Tape (CT); Part Status: Active; Tolerance: ±5%; Operating Temperature: -65°C ~ 150°C; Mounting Type: Surface Mount; Package / Case: SOD-123; Supplier Device Package: SOD-123; Base Part Number: MMSZ5235B; ComponentLink1URL: https://www.diodes.com/assets/Datasheets/ds18010.pdf; ComponentLink1Description: https://www.diodes.com/assets/Datasheets/ds18010.pdf; Supplier Part Number 1: MMSZ5235B-FDICT-ND
footprint DIODE SOD123
pins: 1 K, 2 A

## DIODE ZENER 16V 5W DO-214AA (SMB)
designator D?  Voltage - Zener (Nom): 16V
Zener Diode 16V 5W ±5% Surface Mount DO-214AA (SMB); Manufacture: Micro Commercial Co; Manufacture Part Number: SMBJ5353B-TP; Impedence (Max): 2.5 Ohm; Voltage - Forward: 1.2V @ 1A; Power (Max): 5W; Supplier 1: Digi-Key; Supplier Part Number 1: SMBJ5353B-TPMSCT-ND
footprint DO-214AA Diode (Zener Diode 16V 5W SMBJ5353B-TP)
pins: 1 A, 2 K

## ENCLOSURE PC 120x120x70
designator M?  Manufacturer Part Number: 1557DA2BK  (hidden comment: *)
Black Polycarbonate Wall Mount Watertight Enclosure; Manufacturer: Hammond; Supplier 1: Digi-Key; Stock 1: 25; Pricing 1: 1=18.70000, 5=17.60000, 10=16.50000, 25=15.40000, 50=15.12500, 100=14.85000, 250=14.63000, 500=14.30000 (USD); Supplier Part Number 1: 164-1557DA2BK-ND
footprint ENCLOSURE PC 120X120X70 TOP

## ENCLOSURE PC 120x120x70 (BOTTOM)
designator ?  Manufacturer Part Number: 1557DA2BK  (hidden comment: *)  (no BOM)
Black Polycarbonate Wall Mount Watertight Enclosure; Manufacturer: Hammond; Supplier 1: Digi-Key; Stock 1: 25; Pricing 1: 1=18.70000, 5=17.60000, 10=16.50000, 25=15.40000, 50=15.12500, 100=14.85000, 250=14.63000, 500=14.30000 (USD); Supplier Part Number 1: 164-1557DA2BK-ND
footprint ENCLOSURE PC 120X120X70 BOTTOM

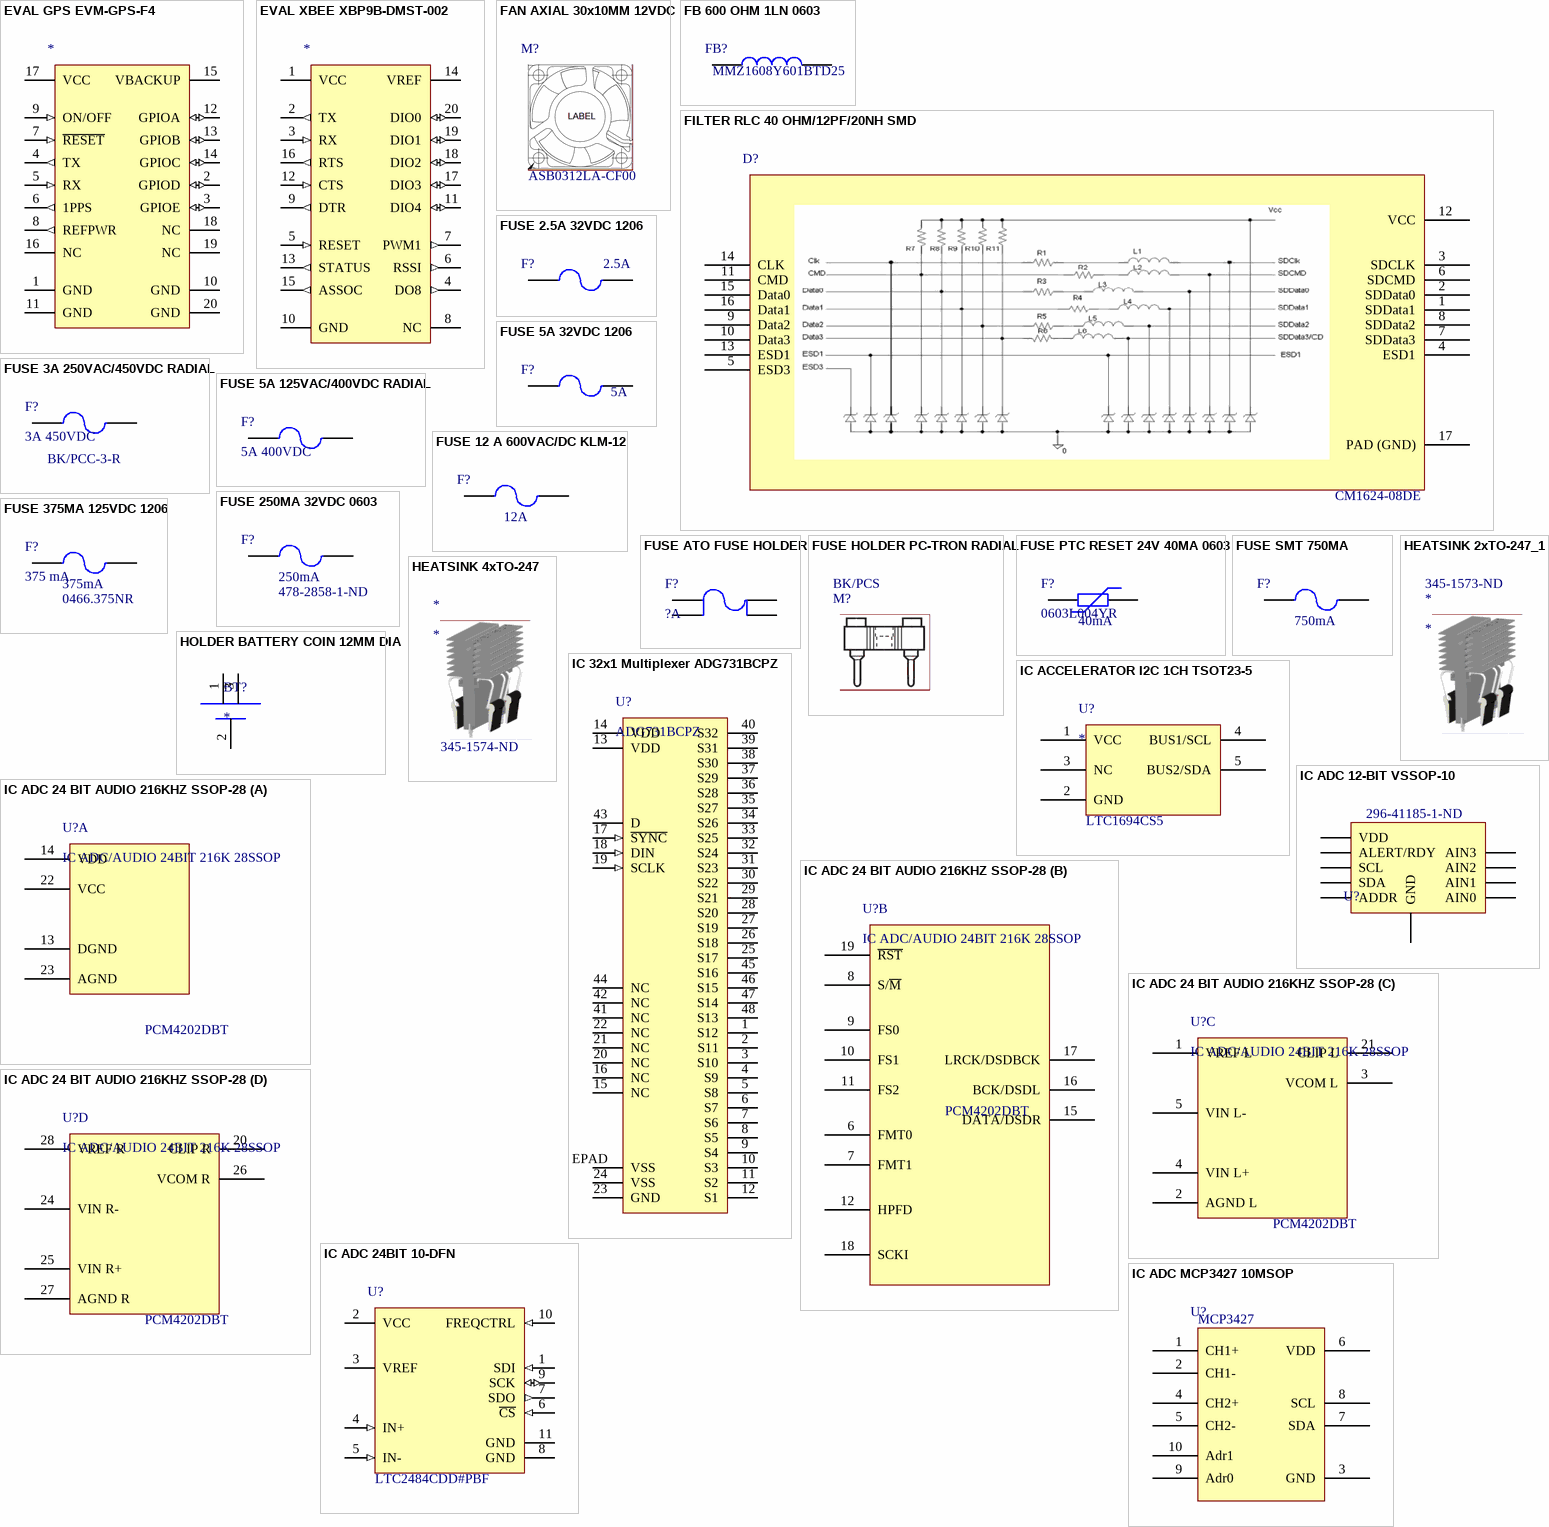
[diagram p4: symbols EVAL GPS EVM-GPS-F4 to IC ADC MCP3427 10MSOP]

## EVAL GPS EVM-GPS-F4
designator *
BOARD EVAL FOR RXM-GPS-F4; Manufacturer 1: Linx Technologies Inc.; Manufacturer Part Number 1: EVM-GPS-F4; Frequency: 1575.42MHz; Supplier 1: Digi-Key; Supplier Part Number 1: EVM-GPS-F4-ND; Part Status: Active; Type: GPS; For Use With/Related Products: RXM-GPS-F4; Supplied Contents: Board; ComponentLink1URL: https://www.linxtechnologies.com/resources/data-guides/man-evm-gps-f4.pdf; ComponentLink1Description: https://www.linxtechnologies.com/resources/data-guides/man-evm-gps-f4.pdf
footprint EVM-GPS-F4 (GPS Module)
pins: 1 GND (power), 2 GPIOD (io), 3 GPIOE (io), 4 TX (out), 5 RX (in), 6 1PPS (out), 7 ~{RESET} (in), 8 REFPWR (out), 9 ON/OFF (in), 10 GND (power), 11 GND (power), 12 GPIOA (io), 13 GPIOB (io), 14 GPIOC (io), 15 VBACKUP (power), 16 NC, 17 VCC (power), 18 NC, 19 NC, 20 GND (power)

## EVAL XBEE XBP9B-DMST-002
designator *
RF TXRX MODULE ISM<1GHZ RP-SMA; Manufacturer 1: Digi International; Manufacturer Part Number 1: XBP9B-DMST-002; RF Family/Standard: General ISM < 1GHz; Modulation: FHSS; Frequency: 900MHz; Data Rate: 200kbps; Power - Output: 24dBm; Sensitivity: -110dBm; Serial Interfaces: SPI, UART; Antenna Type: Not Included, RP-SMA; Memory Size: 32kB Flash, 2kB RAM; Voltage - Supply: 2.4 V ~ 3.6 V; Current - Receiving: 44mA; Current - Transmitting: 229mA; Supplier 1: Digi-Key; Supplier Part Number 1: 602-1299-ND; Packaging: Bulk; Part Status: Active; Protocol: -; Mounting Type: Through Hole; Operating Temperature: -40°C ~ 85°C; Package / Case: Module; ComponentLink1URL: https://www.digi.com/pdf/ds_xbeepro900hp.pdf; ComponentLink1Description: https://www.digi.com/pdf/ds_xbeepro900hp.pdf
pins: 1 VCC (power), 2 TX (out), 3 RX (in), 4 DO8 (out) "Not Supported", 5 RESET (in), 6 RSSI (out) "RX Signal Strength Indicator", 7 PWM1 (out), 8 NC, 9 DTR (out), 10 GND, 11 DIO4 (io), 12 CTS (in), 13 STATUS (out), 14 VREF (power), 15 ASSOC (out) "Associated Indicator", 16 RTS (out), 17 DIO3 (io), 18 DIO2 (io), 19 DIO1 (io), 20 DIO0 (io)

## FAN AXIAL 30x10MM 12VDC
designator M?  Manufacturer Part Number: ASB0312LA-CF00  (hidden comment: *)
FAN AXIAL 30X10MM 12VDC WIRE; Manufacturer: Delta Design; Current Rating: 50mA; Airflow: 3.2CFM; Noise: 21dBA; Max Power Dissipation: 600mW; RPM: 8000RPM; Bearing Type: Sleeve; Supplier 1: Digi-Key; Supplier Part Number 1: 603-1728-ND; RoHS: Yes; Stock 1: 2468; Case/Package: Axial; Weight: 0.016lb; Package Quantity: 1440; Termination: 3 Wire Leads; Width: 10mm; ComponentLink1URL: http://www.delta-fan.com/Download/Spec/ASB0312LA-CF00.pdf; ComponentLink1Description: http://www.delta-fan.com/Download/Spec/ASB0312LA-CF00.pdf
footprint FAN AXIAL 30x10MM 12VDC

## FB 600 OHM 1LN 0603
designator FB?  Manufacturer Part Number: MMZ1608Y601BTD25  (hidden comment: *)
FERRITE BEAD 600 OHM 0603 1LN; Manufacturer: TDK; Number of Lines: 1; Max Current Rating: 500mA; DC Resistance (DCR): 400mR; Impedance: 600R; Tolerance: 25%; Test Frequency: 100MHz; Supplier 1: Digi-Key; Supplier Part Number 1: 445-172850-1-ND; RoHS: Yes; Stock 1: 19540; Pricing 1: 1 = 0.10000, 10 = 0.07600, 25 = 0.06840, 50 = 0.05000, 100 = 0.04330, 250 = 0.03416, 500 = 0.02884, 1000 = 0.02429 (USD); Mount: Surface Mount; Case/Package: 0603; Weight: 7.1E-05oz; Case Code (Metric): 1608; Case Code (Imperial): 0603; Min Operating Temperature: -55°C; Max Operating Temperature: 125°C; Package Quantity: 4000; Packaging: Tape and Reel; Termination: SMD/SMT; Max DC Current: 500mA; Length: 0.063inch; Height: 0.037inch; Width: 0.031inch; Ratings: AEC-Q200
footprint FB 0603 (Ferrite Bead, 0603)
pins: 1, 2

## FILTER RLC 40 OHM/12PF/20NH SMD
designator D?  Manufacturer Part Number 1: CM1624-08DE
RLC EMI Filter 3rd Order Low Pass 6 Channel R = 40Ohms, C = 12pF, L = 20nH 16-UFDFN Exposed Pad; Manufacturer 1: ON Semiconductor; Operating Supply Voltage: 5V; Capacitance: 20pF; Number of Channels: 6; DC Resistance (DCR): 40R; ESD Protection: Yes; Clamping Voltage: 9V; Direction: Bidirectional; Number of Lines: 8; Supplier 1: Digi-Key; Stock 1: 5050; Pricing 1: 1=0.52000, 10=0.48300, 25=0.46040, 50=0.44560, 100=0.43070, 250=0.40836, 500=0.34156, 1000=0.26507 (USD); RoHS: Yes; Case/Package: DFN; Number of Pins: 16; Contact Plating: Tin,Matte; Min Operating Temperature: -40°C; Max Operating Temperature: 85°C; Package Quantity: 1; Packaging: Tape and Reel; Termination: Flat; Length: 3.4mm; Height: 0.022inch; Width: 1.35mm; Depth: 1.45mm; REACH SVHC: No SVHC; Lead Free: Lead Free; Halogen Free: Halogen Free; ComponentLink1URL: https://datasheet.ciiva.com/1267/cm1624-d-1267908.pdf?src-supplier=Element14; ComponentLink1Description: https://datasheet.ciiva.com/1267/cm1624-d-1267908.pdf?src-supplier=Element14; ComponentLink2URL: https://datasheet.ciiva.com/4942/cm1624-d-92596-4942166.pdf?src-supplier=Mouser; ComponentLink2Description: https://datasheet.ciiva.com/4942/cm1624-d-92596-4942166.pdf?src-supplier=Mouser; ComponentLink3URL: https://datasheet.ciiva.com/26793/cm1624-08de-26793355.pdf?src-supplier=IIIC; ComponentLink3Description: https://datasheet.ciiva.com/26793/cm1624-08de-26793355.pdf?src-supplier=IIIC; ComponentLink4URL: https://datasheet.ciiva.com/1022/cm1624-d-1022810.pdf?src-supplier=Digi-Key; ComponentLink4Description: https://datasheet.ciiva.com/1022/cm1624-d-1022810.pdf?src-supplier=Digi-Key; ComponentLink5URL: https://datasheet.ciiva.com/15225/getdatasheetpartid-650344-15225530.pdf?src-supplier=Verical; ComponentLink5Description: https://datasheet.ciiva.com/15225/getdatasheetpartid-650344-15225530.pdf?src-supplier=Verical; ComponentLink6URL: https://datasheet.ciiva.com/3067/cm1624-d-3067220.pdf?src-supplier=Avnet; ComponentLink6Description: https://datasheet.ciiva.com/3067/cm1624-d-3067220.pdf?src-supplier=Avnet; ComponentLink7URL: https://datasheet.ciiva.com/3067/cm1624-d-3067221.pdf?src-supplier=Avnet; ComponentLink7Description: https://datasheet.ciiva.com/3067/cm1624-d-3067221.pdf?src-supplier=Avnet; ComponentLink8URL: https://datasheet.ciiva.com/1022/cm1624-d-1022808.pdf?src-supplier=Digi-Key; ComponentLink8Description: https://datasheet.ciiva.com/1022/cm1624-d-1022808.pdf?src-supplier=Digi-Key; ComponentLink9URL: https://datasheet.ciiva.com/1022/cm1624-d-1022809.pdf?src-supplier=Digi-Key; ComponentLink9Description: https://datasheet.ciiva.com/1022/cm1624-d-1022809.pdf?src-supplier=Digi-Key; Supplier Part Number 1: CM1624-08DEOSCT-ND
footprint QFN0P135X330X55_HS-17M (QFN, 16-Leads, Body 1.35x3.30mm, Pitch 0.00mm/0.40mm, Thermal Pad 0.50x3.00mm, IPC Low Density)
pins: 1 SDData1, 2 SDData0, 3 SDCLK, 4 ESD1, 5 ESD3, 6 SDCMD, 7 SDData3, 8 SDData2, 9 Data2, 10 Data3, 11 CMD, 12 VCC, 13 ESD1, 14 CLK, 15 Data0, 16 Data1, 17 PAD (GND)

## FUSE 2.5A 32VDC 1206
designator F?  Current Rating: 2.5A  (hidden comment: *)
2.5A 32V AC 32V DC Fuse Board Mount (Cartridge Style Excluded) Surface Mount 1206 (3216 Metric); Manufacturer 1: Littelfuse; Manufacturer Part Number 1: 046602.5NRHF; DC Cold Resistance: 24mR; Power Dissipation: 192.5mW; Approvals: UL; Supplier 1: Digi-Key; Stock 1: 4995; Pricing 1: 1=0.84000, 5=0.81200, 10=0.78700, 50=0.66180, 100=0.54930, 250=0.49940, 500=0.42450, 1000=0.37455 (USD); RoHS: Yes; Mount: Surface Mount; Case/Package: 1206; Case Code (Metric): 3216; Case Code (Imperial): 1206; Housing Material: Ceramic; Min Operating Temperature: -55°C; Max Operating Temperature: 90°C; Package Quantity: 5000; Voltage Rating (AC): 32V; Voltage Rating (DC): 32V; Packaging: Tape and Reel; Working Voltage: 32V; Fuse Type: Board Mount (Cartridge Style Excluded); Length: 3.18mm; Height: 0.023inch; Width: 0.06inch; Depth: 1.52mm; Lead Free: Lead Free; ComponentLink1URL: https://datasheet.ciiva.com/303/littelfuse-fuse-466-303217.pdf?src-supplier=Digi-Key; ComponentLink1Description: https://datasheet.ciiva.com/303/littelfuse-fuse-466-303217.pdf?src-supplier=Digi-Key; ComponentLink2URL: https://datasheet.ciiva.com/18652/littelfuse-fuse-466-datasheet-pdf-18652469.pdf?src-supplier=Digi-Key; ComponentLink2Description: https://datasheet.ciiva.com/18652/littelfuse-fuse-466-datasheet-pdf-18652469.pdf?src-supplier=Digi-Key; ComponentLink3URL: https://datasheet.ciiva.com/16327/littelfuse-fuse-466-16327471.pdf?src-supplier=Future+Electronics; ComponentLink3Description: https://datasheet.ciiva.com/16327/littelfuse-fuse-466-16327471.pdf?src-supplier=Future+Electronics; Supplier Part Number 1: F6143CT-ND
footprint FUSE LITTLEFUSE 0466 1206
pins: 1, 2

## FUSE 3A 250VAC/450VDC RADIAL
designator F?, comment 3A 450VDC  Manufacturer Part Number: BK/PCC-3-R
FUSE BOARD MNT 3A 250VAC/450VDC; Manufacturer: Eaton; Approvals: CSA,UL; Fuse Type: Board Mount (Cartridge Style Excluded); Voltage Rating: 250V; Voltage Rating (DC): 450V; ComponentLink1URL: http://www.cooperindustries.com/content/dam/public/bussmann/Electronics/Resources/product-datasheets/Bus_Elx_DS_2034_PC_Tron_Series.pdf; ComponentLink1Description: http://www.cooperindustries.com/content/dam/public/bussmann/Electronics/Resources/product-datasheets/Bus_Elx_DS_2034_PC_Tron_Series.pdf; Supplier 1: Digi-Key; Supplier Part Number 1: 283-2768-ND; Case/Package: Radial; Contact Plating: Tin; Current Rating: 3A; Depth: 2.41mm; Height: 0.17inch; Housing Material: Plastic; Length: 0.3inch; Mount: Through Hole; Number of Pins: 2; Packaging: Bulk; Voltage Rating (AC): 250V; Width: 0.095inch; Supplier Packaging 1: Bulk; RoHS: Yes; Stock 1: 4171
footprint FUSE 5A 400VDC RADIAL
pins: 1, 2

## FUSE 5A 32VDC 1206
designator F?  Current Rating: 5A  (hidden comment: *)
FUSE 5.0A 125VAC FAST 1206; Manufacturer: Bel TRP; Manufacturer Part Number: C1F5; Voltage Rating (AC): 125V; Voltage Rating (DC): 63V; DC Cold Resistance: 19mR; Fuse Type: Board Mount (Cartridge Style Excluded); Approvals: CE,cURus; Supplier 1: Digi-Key; RoHS: Yes; Category: Fuses; Stock 1: 12696; Pricing 1: 1=0.29000, 5=0.27800, 10=0.26500, 50=0.23660, 100=0.22030, 250=0.19584, 500=0.16320, 1000=0.15504 (USD); Mount: Surface Mount; Number of Pins: 2; Case Code (Metric): 3216; Case Code (Imperial): 1206; Contact Plating: Tin; Min Operating Temperature: -55°C; Max Operating Temperature: 125°C; Packaging: Tape and Reel; Voltage Rating: 125V; Length: 0.126inch; Width: 0.062inch; ComponentLink1URL: http://www.mouser.com/ds/2/643/C1F-594910.pdf?src-supplier=Mouser; ComponentLink1Description: http://www.mouser.com/ds/2/643/C1F-594910.pdf?src-supplier=Mouser; ComponentLink2URL: http://belfuse.com/pdfs/C1F.pdf?src-supplier=Avnet; ComponentLink2Description: http://belfuse.com/pdfs/C1F.pdf?src-supplier=Avnet; ComponentLink3URL: https://belfuse.com/resources/datasheets/circuitprotection/ds-cp-c1f-series.pdf?src-supplier=Digi-Key; ComponentLink3Description: https://belfuse.com/resources/datasheets/circuitprotection/ds-cp-c1f-series.pdf?src-supplier=Digi-Key; Supplier Part Number 1: 507-1886-1-ND; Case/Package: 1206
footprint FUSE LITTLEFUSE 0466 1206
pins: 1, 2

## FUSE 5A 125VAC/400VDC RADIAL
designator F?, comment 5A 400VDC
FUSE BOARD MNT 5A 125VAC/400VDC; Manufacturer: Eaton; Manufacturer Part Number: BK/PCE-5-R; Fuse Type: Board Mount (Cartridge Style Excluded); Response Time: Fast; Breaking Capacity @ Rated Voltage: 10kA AC, 4.2kA DC; Approvals: CSA, UL; Supplier 1: Digi-Key; RoHS: RoHS Compliant; Category: Circuit Protection; Stock 1: 0; Pricing 1: 1=3.06, 5=2.91, 10=2.765, 50=2.2306, 100=1.8911, 250=1.8426, 500=1.55166, 1000=1.38196, 5000=1.21224 (CAD); Packaging: Bulk; Part Status: Active; Package / Case: Radial, Box; Mounting Type: Through Hole; Operating Temperature: -; Color: -; Size / Dimension: 0.300" L x 0.095" W x 0.170" H (7.62mm x 2.41mm x 4.32mm); ComponentLink1URL: http://www.cooperindustries.com/content/dam/public/bussmann/Electronics/Resources/product-datasheets/Bus_Elx_DS_2034_PC_Tron_Series.pdf; ComponentLink1Description: http://www.cooperindustries.com/content/dam/public/bussmann/Electronics/Resources/product-datasheets/Bus_Elx_DS_2034_PC_Tron_Series.pdf; Supplier Part Number 1: 283-2770-ND
footprint FUSE 5A 400VDC RADIAL
pins: 1, 2

## FUSE 12 A 600VAC/DC KLM-12
designator F?  Current Rating: 12A
FUSE CRTRDGE 12A 600VAC/VDC 5AG; Manufacturer: Eaton; Manufacturer Part Number: KLM-12; Fuse Type: Cartridge; Response Time: Fast; Approvals: CE, CSA, UL; Breaking Capacity @ Rated Voltage: 100kA AC, 50kA DC; Supplier 1: Digi-Key; RoHS: RoHS Compliant; Category: Circuit Protection; Stock 1: 0; Pricing 1: 10=39.155 (CAD); Packaging: Bulk; Part Status: Active; Applications: Electrical, Industrial; Features: -; Class: -; Operating Temperature: -; Mounting Type: Holder; Package / Case: 5AG, 10mm x 38.1mm; Size / Dimension: 0.406" Dia x 1.500" L (10.30mm x 38.10mm); ComponentLink1URL: http://www.cooperindustries.com/content/dam/public/bussmann/Electrical/Resources/product-datasheets-a/Bus_Ele_DS_2020_KLM.pdf; ComponentLink1Description: http://www.cooperindustries.com/content/dam/public/bussmann/Electrical/Resources/product-datasheets-a/Bus_Ele_DS_2020_KLM.pdf; Supplier Part Number 1: KLM-12-ND
footprint FUSE CLIPS 1A3400-09-R (FUSE CLIP CARTRIDGE 20A PCB)
pins: 1, 2